# Altium footprint library Batarey_connector.PcbLib: 1 footprints
Each footprint in its own frame and in the unit in brackets; x right, y up, seen from the top. Pads: shape width x height; smd on the part's side, far side on the other; paste and mask are expansions set on the pad; w line width, h text height; cw(c..) or ccw(c..) is an arc to the next point about the centre after c.
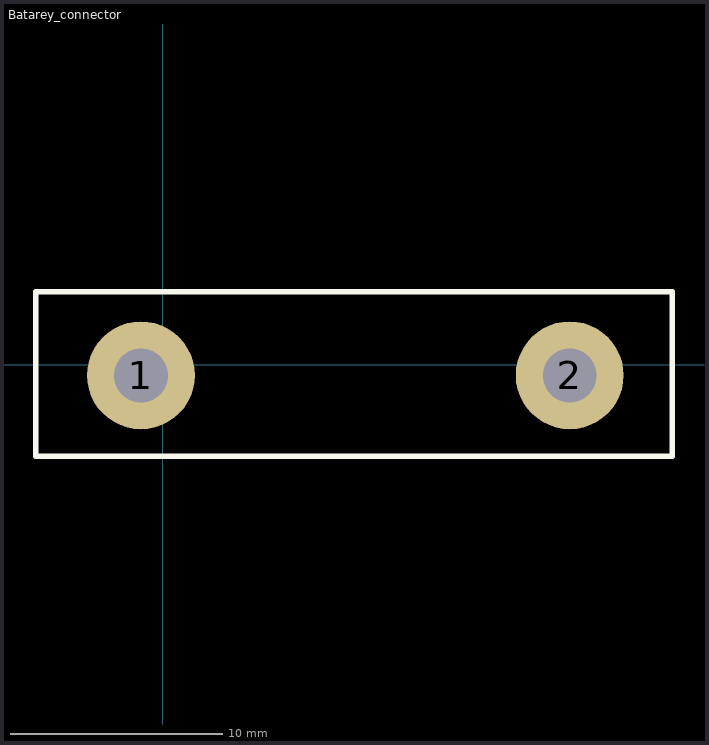
[diagram p0: the footprint, top view; thin cyan lines are the x and y axes]

## Batarey_connector [mil]
pads (2):
  round 200 hole 100: 1(-40,-20) 2(755,-20)
Top Overlay:
  lines w10: -235,-170 945,-170 945,135 -235,135 -235,-170
Bottom Overlay:
  lines w20: -235,-170 945,-170 945,135 -235,135 -235,-170